# Altium integrated library USBtoTTL.IntLib: 9 symbols
Pins are listed as number, name and electrical type; pins without a type are passive.

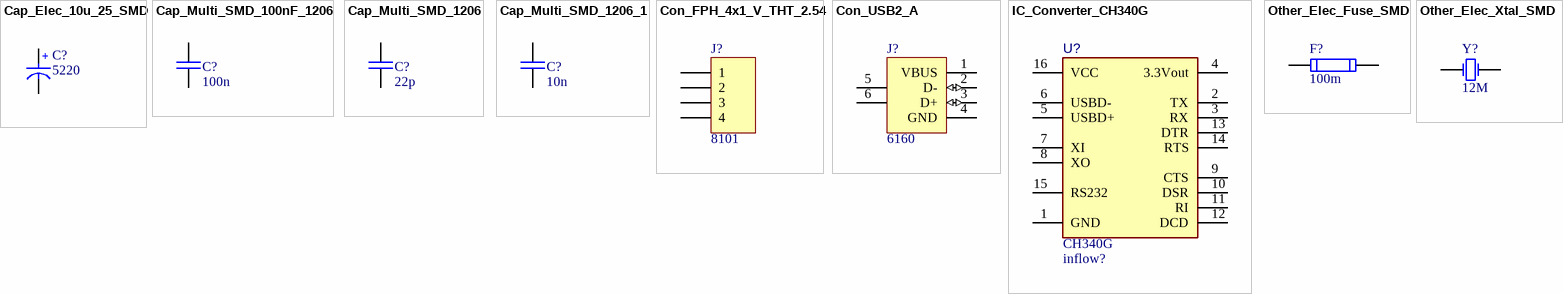
[diagram p0: symbols Cap_Elec_10u_25_SMD to Other_Elec_Xtal_SMD]

## Cap_Elec_10u_25_SMD
designator C?, comment Inflow: 5220  (hidden comment: 10u'F, 6.3'V)
Electrolit Capacitor SMD; Rating: Rating?; Type: Type?; Validation: Valid; Value: 10u'F, 6.3'V; Package: Package?
footprint CAP ALUM 5MM (Aluminum Electrolytic Capacitor, Body 6.60x6.60x7.70mm, IPC Low Density)
pins: 1 +, 2 -

## Cap_Multi_SMD_100nF_1206
designator C?, comment 100n
Bipolar ceramic capacitor SMD; Type: MultiLayer; Inflow: inflow?; Rating: 50V; Validation: Valid; Package: 1206; Value: 100n
footprint CAP 1206/3216 (Chip Capacitor, 2-Leads, Body 3.25x1.60mm, IPC Medium Density)
pins: 1, 2

## Cap_Multi_SMD_1206
designator C?, comment 22p
Bipolar ceramic capacitor SMD; Inflow: inflow?; Type: MultiLayer; Rating: Rating?; Validation: Valid; Package: 1206; Value: 22p
footprint CAP 1206/3216 (Chip Capacitor, 2-Leads, Body 3.25x1.60mm, IPC Medium Density)
pins: 1, 2

## Cap_Multi_SMD_1206_1
designator C?, comment 10n
Bipolar ceramic capacitor SMD; Inflow: inflow?; Type: MultiLayer; Rating: Rating?; Validation: Valid; Package: 1206; Value: 10n
footprint CAP 1206/3216 (Chip Capacitor, 2-Leads, Body 3.25x1.60mm, IPC Medium Density)
pins: 1, 2

## Con_FPH_4x1_V_THT_2.54
designator J?, comment Inflow: 8101  (hidden comment: 4)
Header, single row, 4 pin; Rating: Rating?; Validation: NT; Value: 4; Package: Package?; Type: Type?
footprint HDR_THT_4F_2.54mm (Pin Header, pitch 2.54 mm, THT, Vertical, single row, 4p)
footprint HDR_SMD_4F_2.54mm (Socket Header, Pitch 2.54 mm, SMT, Vertical, single row, 4p)
footprint HDR_SMD_4F_2.54mm_ (Socket Header, Pitch 2.54 mm, SMT, Vertical, single row, 4p)
footprint HDR_THT_4F_2mm (Socket Header, Pitch 2.00 mm, THT, Vertical, single row, 4p)
footprint HDR_THT_4F_2.54mm_military (Pin Header, pitch 2.54 mm, THT, Vertical, single row, 4p)
pins: 1, 2, 3, 4

## Con_USB2_A
designator J?, comment Inflow: 6160  (hidden comment: Type A)
USB Connector-A Type; Rating: Rating?; Validation: NT; Value: Type A; Package: Package?; Type: Type?
footprint USB2.5-2H4C (Connector; USB1.1, Type A, Thru-Hole; 4 Position; Right Angle)
footprint USB2.5-2V4A (Connector; USB1.1, Type A, Thru-Hole; 4 Position; Vertical)
footprint USB/SM2.5-4H4 (Connector; USB1.1, Type A, SM; 4 Position; Right Angle)
footprint USB/SM2.5-4H4A (Connector; USB1.1, Type A, SM; 4 Position; Right Angle)
footprint USB2.0-4H4 (Connector; USB1.1, Type A, Thru-Hole; 4 Position; Right Angle)
footprint USB A TYPE Right Angle (Connector; USB1.1, Type A, SM; 4 Position; Right Angle DESIGNER ABBAS BASEREH)
footprint USB_A_REC_RA_THD (CONN, USB A, Receptacle, RIGHT ANGLE, THD)
footprint USB_A_REC_ST (CONN, USB A, Receptacle, STRAIGHT, THD)
pins: 1 VBUS (power), 2 D- (io), 3 D+ (io), 4 GND (power), 5 MH (power), 6 MH (power)
3 alternate drawings of the same symbol

## IC_Converter_CH340G
designator U?, comment Inflow: inflow?  (hidden comment: CH340G)
TTL To USB Chip; Rating: Rating?; Validation: Valid; Type: USB to TTL; Package: SO-16; Value: CH340G
footprint SO16_M (16-Pin Small Outline Integrated Circuit 1.27 mm Pitch, IPC Low Density - DESIGNER ABBAS BASEREH)
footprint SO16_L (16-Pin Small Outline Integrated Circuit 1.27 mm Pitch, IPC High Density - DESIGNER ABBAS BASEREH)
footprint SO16_N (16-Pin Small Outline Integrated Circuit 1.27 mm Pitch, IPC Medium Density - DESIGNER ABBAS BASEREH)
pins: 1 GND, 2 TX, 3 RX, 4 3.3Vout "if VCC=5 => Bypas by 4.7-20nF, if VCC=3.3 => Tie to VCC", 5 USBD+, 6 USBD-, 7 XI, 8 XO, 9 CTS, 10 DSR, 11 RI, 12 DCD, 13 DTR, 14 RTS, 15 RS232, 16 VCC

## Other_Elec_Fuse_SMD
designator F?, comment 100m
Short circiut  protection; Inflow: inflow?; Type: Fast; Rating: Rating?; Validation: Valid; Package: 1206; Value: 100m
footprint 1206 fuse (Fast Acting Smd 1206 non-Resettable Fuse Chip For Pcb Board-Design:Abbas Basereh)
footprint 0402_F (Surface mount FUSE 0402)
footprint 0603_F (Surface mount FUSE 0603)
footprint 0805_F (Surface mount FUSE 0805)
footprint 1206_F (Surface mount FUSE 1206)
footprint 1812_F (Surface mount FUSE 1812)
footprint 2010_F
footprint 2512_F
pins: 1, 2

## Other_Elec_Xtal_SMD
designator Y?, comment 12M
Crystal Oscillator; Rating: Rating?; Inflow: inflow?; Validation: Valid; Package: SMD; Type: Quartz; Value: 12M
footprint Crystal SMD
footprint SMD_XTAL RTC - H
footprint SMD_ABS07
footprint CX3225GA (3.2x2.5mm)
pins: 1 OSC1, 2 OSC2